# Altium footprint library QFN20.PcbLib: 1 footprints
Each footprint in its own frame and in the unit in brackets; x right, y up, seen from the top. Pads: shape width x height; smd on the part's side, far side on the other; paste and mask are expansions set on the pad; w line width, h text height; cw(c..) or ccw(c..) is an arc to the next point about the centre after c.
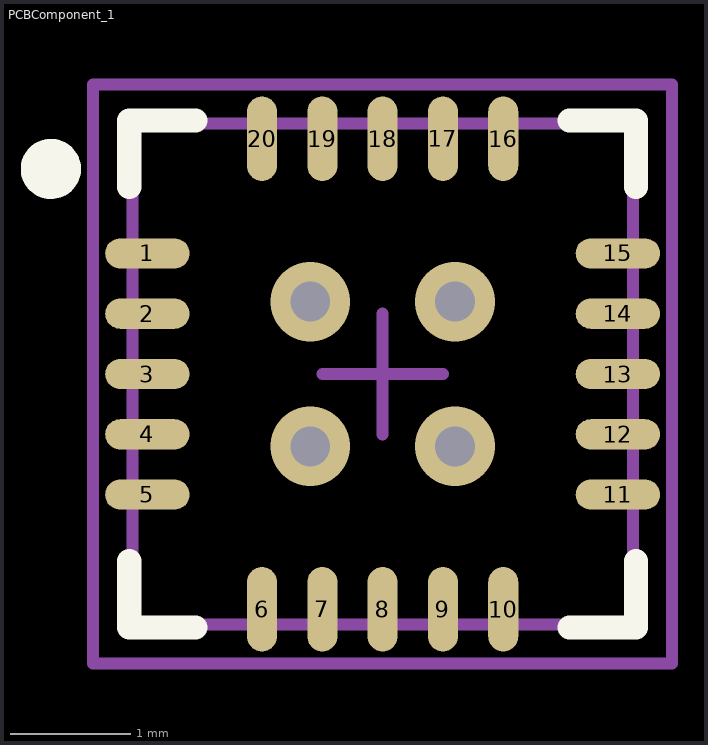
[diagram p0: the footprint, top view; thin cyan lines are the x and y axes]

## PCBComponent_1 [mm]
pads (20):
  oval 0.7x0.25 smd: 1(-751.631,-926.1) 2(-751.631,-926.6) 3(-751.631,-927.1) 4(-751.631,-927.6) 5(-751.631,-928.1) 11(-747.731,-928.1) 12(-747.731,-927.6) 13(-747.731,-927.1) 14(-747.731,-926.6) 15(-747.731,-926.1)
  oval 0.25x0.7 smd: 6(-750.681,-929.05) 7(-750.181,-929.05) 8(-749.681,-929.05) 9(-749.181,-929.05) 10(-748.681,-929.05) 16(-748.681,-925.15) 17(-749.181,-925.15) 18(-749.681,-925.15) 19(-750.181,-925.15) 20(-750.681,-925.15)
via -749.081,-927.7 diameter 0.66 hole 0.33
via -750.281,-927.7 diameter 0.66 hole 0.33
via -749.081,-926.5 diameter 0.66 hole 0.33
via -750.281,-926.5 diameter 0.66 hole 0.33
Top Overlay:
  circle w0.25: c-752.431,-925.4 r0.125
  lines w0.2: -751.781,-928.65 -751.781,-929.2 -751.231,-929.2 ; -751.781,-925.55 -751.781,-925 -751.231,-925 ; -748.131,-929.2 -747.581,-929.2 -747.581,-928.65 ; -748.131,-925 -747.581,-925 -747.581,-925.55
Mechanical 13:
  lines w0.1: -751.756,-929.175 -747.606,-929.175 -747.606,-925.025 -751.756,-925.025 -751.756,-929.175
Mechanical 15:
  lines w0.1: -750.181,-927.1 -749.181,-927.1 ; -749.681,-927.6 -749.681,-926.6 ; -752.081,-929.5 -747.281,-929.5 -747.281,-924.7 -752.081,-924.7 -752.081,-929.5